# Altium footprint library QSTL_Nano_D_Con_Micro_DSUB.PcbLib: 4 footprints
Each footprint in its own frame and in the unit in brackets; x right, y up, seen from the top. Pads: shape width x height; smd on the part's side, far side on the other; paste and mask are expansions set on the pad; w line width, h text height; cw(c..) or ccw(c..) is an arc to the next point about the centre after c.
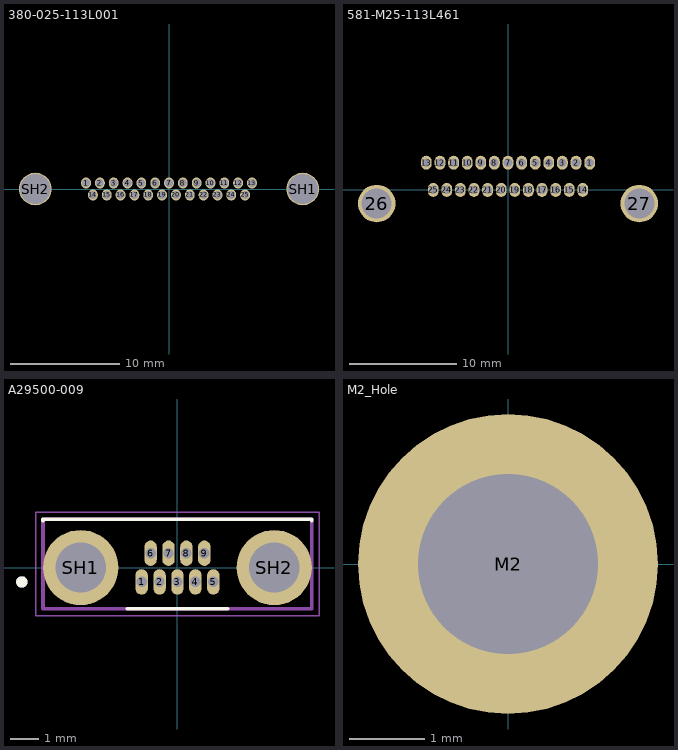
[diagram p0: the footprints below, top view; thin cyan lines are the x and y axes]

## 380-025-113L001 [mm] "Plug Micro DSUB"
pads (27):
  oval 0.9x1 hole 0.7: 1(-7.62,0.55) 2(-6.35,0.55) 3(-5.08,0.55) 4(-3.81,0.55) 5(-2.54,0.55) 6(-1.27,0.55) 7(0,0.55) 8(1.27,0.55) 9(2.54,0.55) 10(3.81,0.55) 11(5.08,0.55) 12(6.35,0.55) 13(7.62,0.55) 14(-6.99,-0.55) 15(-5.72,-0.55) 16(-4.45,-0.55) 17(-3.18,-0.55) 18(-1.91,-0.55) 19(-0.64,-0.55) 20(0.64,-0.55) 21(1.91,-0.55) 22(3.18,-0.55) 23(4.45,-0.55) 24(5.72,-0.55) 25(6.99,-0.55)
  round 3 hole 2.8: SH1(12.275,0) SH2(-12.275,0)
3D body "380-025-113L001.STEP": height 10, standoff -3, extent -14.85,-3.65 14.85,3.7

## 581-M25-113L461 [mm]
pads (27):
  oval 1x1.3 hole 0.8: 1(7.62,2.54) 2(6.35,2.54) 3(5.08,2.54) 4(3.81,2.54) 5(2.54,2.54) 6(1.27,2.54) 7(0,2.54) 8(-1.27,2.54) 9(-2.54,2.54) 10(-3.81,2.54) 11(-5.08,2.54) 12(-6.35,2.54) 13(-7.62,2.54) 14(6.985,0) 15(5.715,0) 16(4.445,0) 17(3.175,0) 18(1.905,0) 19(0.635,0) 20(-0.635,0) 21(-1.905,0) 22(-3.175,0) 23(-4.445,0) 24(-5.715,0) 25(-6.985,0)
  round 3.5 hole 2.8: 26(-12.255,-1.27) 27(12.255,-1.27)

## A29500-009 [mil]
height 225.2
pads (11):
  oval 17.32x35.43 hole 14.5: 1(-50,-20) 2(-25,-20) 3(0,-20) 4(25,-20) 5(50,-20) 6(-37.5,20) 7(-12.5,20) 8(12.5,20) 9(37.5,20)
  round 105 hole 70: SH1(-135,0) SH2(135,0)
Top Overlay:
  circle w7.87: c-217.03,-20 r3.94
  lines w5: -187.5,65.1 -187.5,67.5 187.5,67.5 187.5,65.1 ; -69.9,-57.5 69.9,-57.5
Mechanical 13:
  circle w7.87: c-217.03,-20 r3.94
  lines w5: -187.5,-57.5 -187.5,67.5 187.5,67.5 187.5,-57.5 -187.5,-57.5
Mechanical 15:
  lines w1.97: -197.34,-67.34 -197.34,77.34 197.34,77.34 197.34,-67.34 -197.34,-67.34
3D body "A29500-009.STEP": height 225.2, standoff -69.8, extent -187.5,-57.5 187.5,68

## M2_Hole [mm]
pads (1):
  round 4 hole 2.4: M2(0,0)